# Altium footprint library TO127P1524X508-8_7N-V1.PcbLib: 1 footprints
Each footprint in its own frame and in the unit in brackets; x right, y up, seen from the top. Pads: shape width x height; smd on the part's side, far side on the other; paste and mask are expansions set on the pad; w line width, h text height; cw(c..) or ccw(c..) is an arc to the next point about the centre after c.
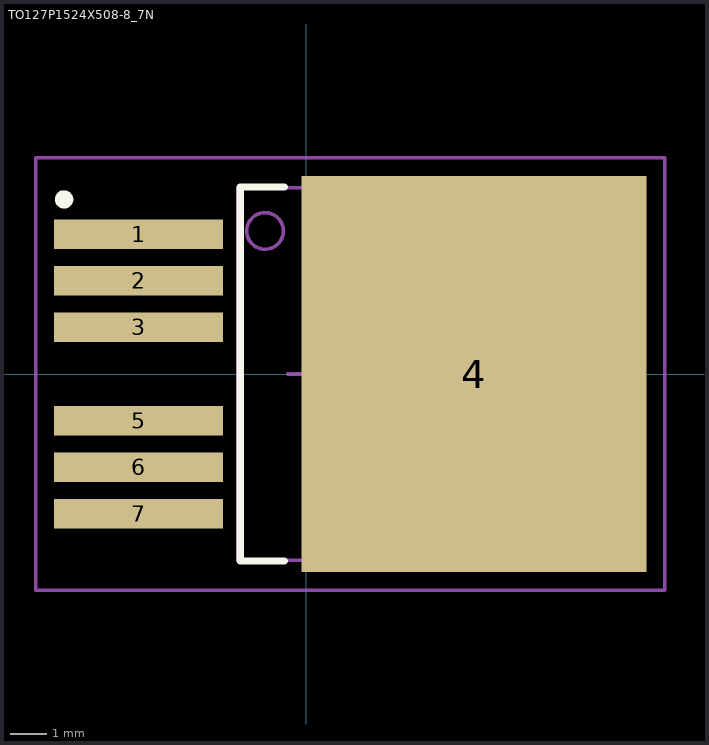
[diagram p0: the footprint, top view; thin cyan lines are the x and y axes]

## TO127P1524X508-8_7N [mm] "TO,1.27mm pitch;7 pin,15.245mm L X 9.015mm W X 5.084mm H body"
height 5.084
pads (7):
  rect 4.6x0.8 smd paste-0.05 mask+0: 1(-4.575,3.81) 2(-4.575,2.54) 3(-4.575,1.27) 5(-4.575,-1.27) 6(-4.575,-2.54) 7(-4.575,-3.81)
  rect 9.4x10.8 smd paste-4.7 mask+0: 4(4.575,0)
Top Overlay:
  circle w0.25: c-6.604,4.76 r0.125
  lines w0.2: -0.6,-5.1 -1.8,-5.1 -1.8,5.1 -0.6,5.1
Top Paste:
  region: -0.075,-0.15 4.425,-0.15 4.425,-5.35 -0.075,-5.35
  region: 4.725,5.35 4.725,0.15 9.225,0.15 9.225,5.35
  region: 4.725,-0.15 4.725,-5.35 9.225,-5.35 9.225,-0.15
  region: 4.425,0.15 -0.075,0.15 -0.075,5.35 4.425,5.35
M3 (ASY_Text_Top):
  text ".DESIGNATOR" at 0,0 h1.2
M13 (CMP_Body_OTL_Top):
  circle w0.1: c-1.125,3.9 r0.5
  lines w0.1: -1.872,-5.08 7.143,-5.08 7.143,5.08 -1.872,5.08 -1.872,-5.08
M15 (CMP_Courtyard_Top):
  lines w0.1: -0.5,0 0.5,0 ; 0,-0.5 0,0.5 ; -7.375,-5.9 9.775,-5.9 9.775,5.9 -7.375,5.9 -7.375,-5.9
3D body "PG-TO263-7-900.STEP": height 4.58, standoff 0, extent -6.422,-5.047 8.823,5.048